# EAGLE library part OPAMP:AD8___(DUAL) (library QuantumOptics)
AD8xxx, Analog Devices, dual opamp in SOIC-8 and MSOP-8, various versions available. AD8066, AD8656, etc. e.g. http://www.analog.com/UploadedFiles/Data_Sheets/476080131AD8655_6_a.pdf
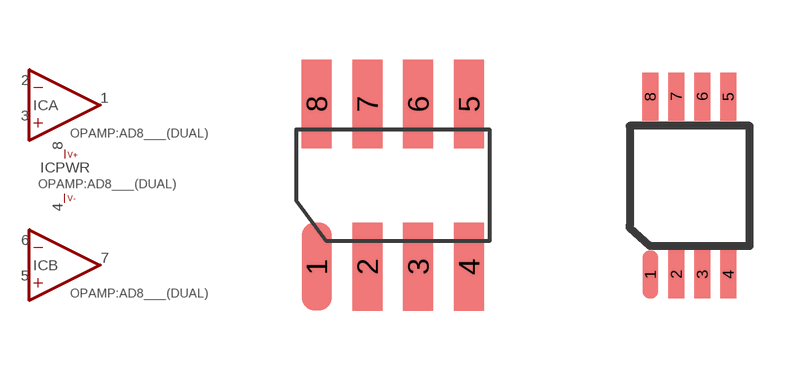
[diagram p27: symbol with the pads of SOIC-8; footprints SOIC-8, MSOP8]

Designator prefix IC; gates A=OPAMP B=OPAMP PWR=PWR+-

## OPAMP:AD8___(DUAL)-SOIC-8  [SOIC-8]
1  A:OUT  out
2  A:-IN  in
3  A:+IN  in
4  PWR:V-
5  B:+IN  in
6  B:-IN  in
7  B:OUT  out
8  PWR:V++

## OPAMP:AD8___(DUAL)-MSOP-8  [MSOP8]
Pads as for SOIC-8

## OPAMP:AD8___(DUAL)-DIP8  [DIL08]
Pads as for SOIC-8

## Footprint SOIC-8 (pad centres in mm)
SOIC-8 (AKA SO-8), pads on 0.050" grid.
smd 0.75 x 2.2: 1 -1.27,-2.032; 2 0,-2.032; 3 1.27,-2.032; 4 2.54,-2.032; 5 2.54,2.032; 6 1.27,2.032; 7 0,2.032; 8 -1.27,2.032

## Footprint MSOP8 (pad centres in mm)
MSOP-8, A.K.A. RM-8. Use 0.025" grid.
smd 0.4 x 1.2: 1 -0.65,-1.905; 2 0,-1.905; 3 0.65,-1.905; 4 1.3,-1.905; 5 1.3,2.54; 6 0.65,2.54; 7 0,2.54; 8 -0.65,2.54

## Footprint DIL08 (pad centres in mm)
Dual In Line Package
drill 0.889 pad 1.575 long: 1 -3.81,-3.81
drill 0.889 long: 2 -1.27,-3.81; 3 1.27,-3.81; 4 3.81,-3.81; 5 3.81,3.81; 6 1.27,3.81; 7 -1.27,3.81; 8 -3.81,3.81